# Altium footprint library DPAK_0.PcbLib: 1 footprints
Each footprint in its own frame and in the unit in brackets; x right, y up, seen from the top. Pads: shape width x height; smd on the part's side, far side on the other; paste and mask are expansions set on the pad; w line width, h text height; cw(c..) or ccw(c..) is an arc to the next point about the centre after c.
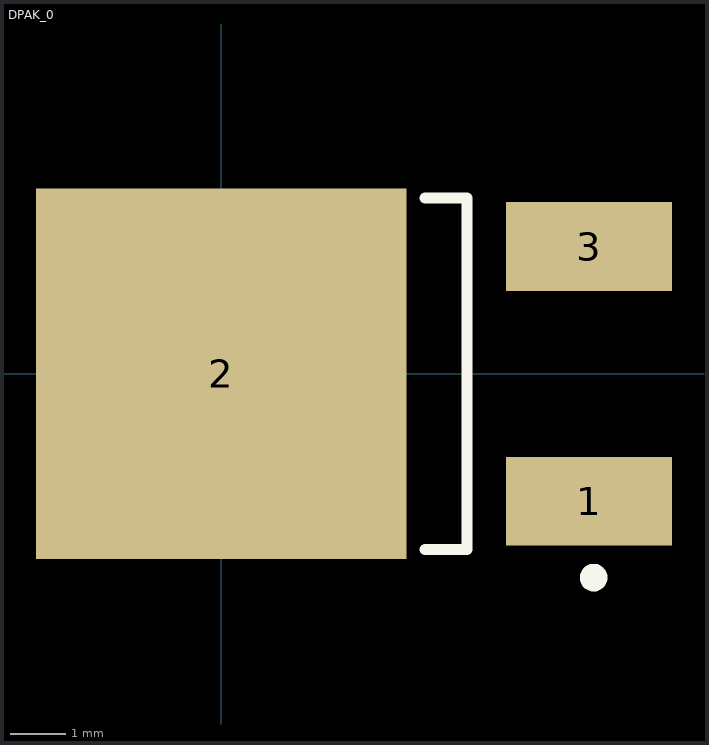
[diagram p0: the footprint, top view; thin cyan lines are the x and y axes]

## DPAK_0 [mm] "DPAK"
pads (3):
  rect 3x1.6 smd: 1(6.65,-2.3) 3(6.65,2.3)
  rect 6.7x6.7 smd: 2(0,0)
Top Overlay:
  circle w0.25: c6.731,-3.683 r0.125
  lines w0.2: 3.683,-3.175 4.445,-3.175 4.445,3.175 3.683,3.175